# EAGLE library part 74XX161 (library yapo)
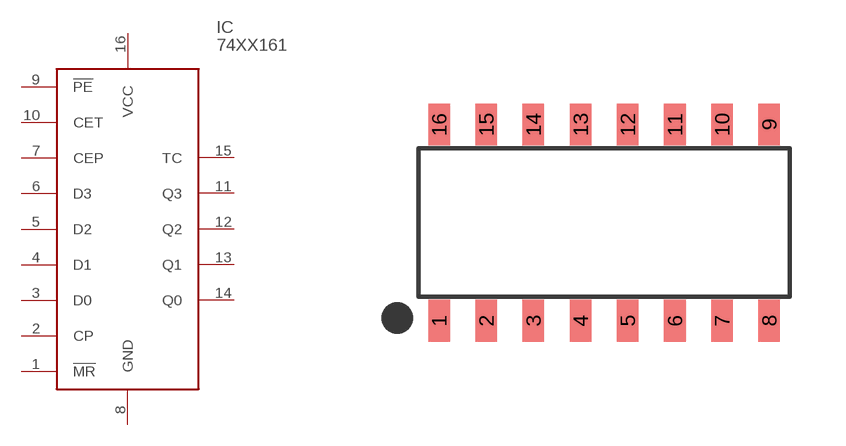
[diagram p65: symbol with the pads of SOIC-16; footprint SOIC-16]

Designator prefix IC

## 74XX161  [SOIC-16]
1  !MR!
2  CP
3  D0
4  D1
5  D2
6  D3
7  CEP
8  GND
9  !PE!
10  CET
11  Q3
12  Q2
13  Q1
14  Q0
15  TC
16  VCC

## Footprint SOIC-16 (pad centres in mm)
smd 0.58 x 1.12: 1 -4.445,-2.64; 2 -3.175,-2.64; 3 -1.905,-2.64; 4 -0.635,-2.64; 5 0.635,-2.64; 6 1.905,-2.64; 7 3.175,-2.64; 8 4.445,-2.64; 9 4.445,2.64; 10 3.175,2.64; 11 1.905,2.64; 12 0.635,2.64; 13 -0.635,2.64; 14 -1.905,2.64; 15 -3.175,2.64; 16 -4.445,2.64